# Altium integrated library NSC MiscPower.IntLib: 1417 symbols (part 25 of 39)
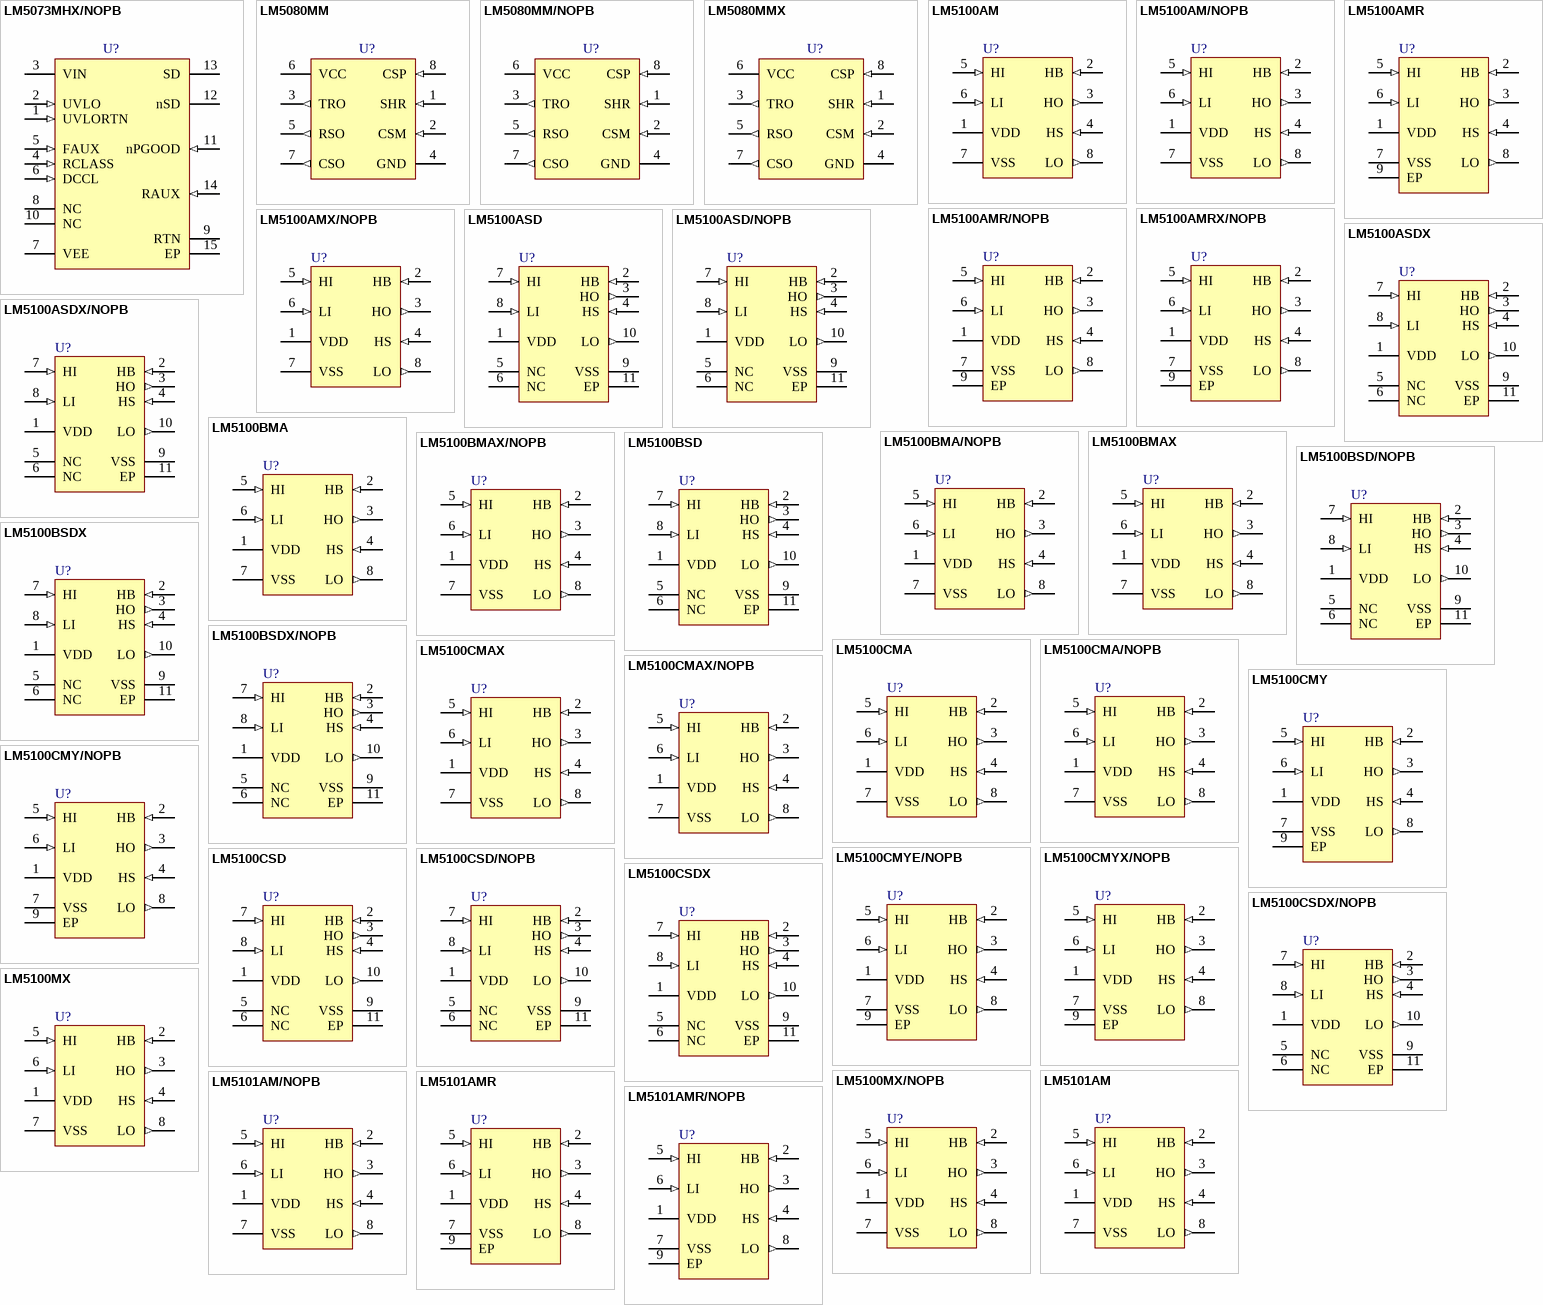
[diagram p75: symbols LM5073MHX/NOPB to LM5101AMR/NOPB]

## LM5100CMY/NOPB
designator U?
1A High Voltage High-Side and Low-Side Gate Driver, 8-pin eMSOP, Pb-Free; PartNumber: LM5100CMY/NOPB; Manufacturer: National Semiconductor; PackageTopMarking: ZXTT*SXCB; PowerWise: N; CompType: MiscPower; Published: 1-Mar-2010; DatasheetVersion: Jun-2009; PackageVersion: revA, Nov-2003; PackageReference: MUY08A; Publisher: Altium Limited; PackageDescription: Molded Mini-SO, Exposed Pad, .118 x .118 x .034in Body, 8 Lead, .0256in Pitch; Supplier 1: Digi-Key; Supplier Part Number 1: LM5100CMYTR-ND; Supplier 2: Digi-Key; Supplier Part Number 2: LM5100CMYCT-ND; Supplier 3: Digi-Key; Supplier Part Number 3: LM5100CMYDKR-ND; RoHS: Y; PinCount: 8; Code_JEDEC: MO-187-AA; ComponentLink1Description: LM5100C Datasheet; ComponentLink1URL: http://www.national.com/ds/LM/LM5100C.pdf; ComponentLink2Description: LM5100C Web Page; ComponentLink2URL: http://www.national.com/pf/LM/LM5100C.html; ComponentLink3Description: MUY08A Package Page; ComponentLink3URL: http://www.national.com/packaging/folders/muy08a.html
footprint MUY08A_N (TSOP, 8-Leads, Body 3x3mm, Pitch 0.65mm, Exposed Pad, IPC Medium Density)
footprint MUY08A_L (TSOP, 8-Leads, Body 3x3mm, Pitch 0.65mm, Exposed Pad, IPC High Density)
footprint MUY08A_M (TSOP, 8-Leads, Body 3x3mm, Pitch 0.65mm, Exposed Pad, IPC Low Density)
pins: 1 VDD (power), 2 HB (in), 3 HO (out), 4 HS (in), 5 HI (in), 6 LI (in), 7 VSS (power), 8 LO (out), 9 EP (power)

## LM5100CMYE/NOPB
designator U?
1A High Voltage High-Side and Low-Side Gate Driver, 8-pin eMSOP, Pb-Free; PartNumber: LM5100CMYE/NOPB; Manufacturer: National Semiconductor; PackageTopMarking: ZXTT*SXCB; PowerWise: N; CompType: MiscPower; Published: 1-Mar-2010; DatasheetVersion: Jun-2009; PackageVersion: revA, Nov-2003; PackageReference: MUY08A; Publisher: Altium Limited; PackageDescription: Molded Mini-SO, Exposed Pad, .118 x .118 x .034in Body, 8 Lead, .0256in Pitch; Supplier 1: Digi-Key; Supplier Part Number 1: LM5100CMYE-ND; RoHS: Y; PinCount: 8; Code_JEDEC: MO-187-AA; ComponentLink1Description: LM5100C Datasheet; ComponentLink1URL: http://www.national.com/ds/LM/LM5100C.pdf; ComponentLink2Description: LM5100C Web Page; ComponentLink2URL: http://www.national.com/pf/LM/LM5100C.html; ComponentLink3Description: MUY08A Package Page; ComponentLink3URL: http://www.national.com/packaging/folders/muy08a.html
footprint MUY08A_N (TSOP, 8-Leads, Body 3x3mm, Pitch 0.65mm, Exposed Pad, IPC Medium Density)
footprint MUY08A_L (TSOP, 8-Leads, Body 3x3mm, Pitch 0.65mm, Exposed Pad, IPC High Density)
footprint MUY08A_M (TSOP, 8-Leads, Body 3x3mm, Pitch 0.65mm, Exposed Pad, IPC Low Density)
pins: 1 VDD (power), 2 HB (in), 3 HO (out), 4 HS (in), 5 HI (in), 6 LI (in), 7 VSS (power), 8 LO (out), 9 EP (power)

## LM5100CMYX/NOPB
designator U?
1A High Voltage High-Side and Low-Side Gate Driver, 8-pin eMSOP, Pb-Free; PartNumber: LM5100CMYX/NOPB; Manufacturer: National Semiconductor; PackageTopMarking: ZXTT*SXCB; PowerWise: N; CompType: MiscPower; Published: 1-Mar-2010; DatasheetVersion: Jun-2009; PackageVersion: revA, Nov-2003; PackageReference: MUY08A; Publisher: Altium Limited; PackageDescription: Molded Mini-SO, Exposed Pad, .118 x .118 x .034in Body, 8 Lead, .0256in Pitch; Supplier 1: Digi-Key; Supplier Part Number 1: LM5100CMYX-ND; RoHS: Y; PinCount: 8; Code_JEDEC: MO-187-AA; ComponentLink1Description: LM5100C Datasheet; ComponentLink1URL: http://www.national.com/ds/LM/LM5100C.pdf; ComponentLink2Description: LM5100C Web Page; ComponentLink2URL: http://www.national.com/pf/LM/LM5100C.html; ComponentLink3Description: MUY08A Package Page; ComponentLink3URL: http://www.national.com/packaging/folders/muy08a.html
footprint MUY08A_N (TSOP, 8-Leads, Body 3x3mm, Pitch 0.65mm, Exposed Pad, IPC Medium Density)
footprint MUY08A_L (TSOP, 8-Leads, Body 3x3mm, Pitch 0.65mm, Exposed Pad, IPC High Density)
footprint MUY08A_M (TSOP, 8-Leads, Body 3x3mm, Pitch 0.65mm, Exposed Pad, IPC Low Density)
pins: 1 VDD (power), 2 HB (in), 3 HO (out), 4 HS (in), 5 HI (in), 6 LI (in), 7 VSS (power), 8 LO (out), 9 EP (power)

## LM5100CSD
designator U?
1A High Voltage High-Side and Low-Side Gate Driver, 10-pin LLP; PartNumber: LM5100CSD; Manufacturer: National Semiconductor; PackageTopMarking: NS*UZXYTT*5100CSD; PowerWise: N; CompType: MiscPower; Published: 4-Dec-2008; DatasheetVersion: Jun-2009; PackageVersion: revA, May-2003; PackageReference: SDC10A; Publisher: Altium Limited; PackageDescription: LLP, Plastic, Dual, 4 x 4 x 0.8mm Body, 10 Lead, 0.8mm Pitch, No Pullback; Supplier 1: Farnell; Supplier Part Number 1: 1313860; RoHS: N; PinCount: 10; ComponentLink1Description: LM5100C Datasheet; ComponentLink1URL: http://www.national.com/ds/LM/LM5100C.pdf; ComponentLink2Description: LM5100C Web Page; ComponentLink2URL: http://www.national.com/pf/LM/LM5100C.html; ComponentLink3Description: SDC10A Package Page; ComponentLink3URL: http://www.national.com/packaging/folders/sdc10a.html
footprint SDC10A (SON, 10-Leads, Body 4x4 mm, Pitch 0.8mm, NSC Recommended)
pins: 1 VDD (power), 2 HB (in), 3 HO (out), 4 HS (in), 5 NC, 6 NC, 7 HI (in), 8 LI (in), 9 VSS (power), 10 LO (out), 11 EP (power)

## LM5100CSD/NOPB
designator U?
1A High Voltage High-Side and Low-Side Gate Driver, 10-pin LLP, Pb-Free; PartNumber: LM5100CSD/NOPB; Manufacturer: National Semiconductor; PackageTopMarking: NS*UZXYTT*5100CSD; PowerWise: N; CompType: MiscPower; Published: 1-Mar-2010; DatasheetVersion: Jun-2009; PackageVersion: revA, May-2003; PackageReference: SDC10A; Publisher: Altium Limited; PackageDescription: LLP, Plastic, Dual, 4 x 4 x 0.8mm Body, 10 Lead, 0.8mm Pitch, No Pullback; Supplier 1: Digi-Key; Supplier Part Number 1: LM5100CSDTR-ND; Supplier 2: Digi-Key; Supplier Part Number 2: LM5100CSDCT-ND; Supplier 3: Digi-Key; Supplier Part Number 3: LM5100CSDDKR-ND; RoHS: Y; PinCount: 10; ComponentLink1Description: LM5100C Datasheet; ComponentLink1URL: http://www.national.com/ds/LM/LM5100C.pdf; ComponentLink2Description: LM5100C Web Page; ComponentLink2URL: http://www.national.com/pf/LM/LM5100C.html; ComponentLink3Description: SDC10A Package Page; ComponentLink3URL: http://www.national.com/packaging/folders/sdc10a.html
footprint SDC10A (SON, 10-Leads, Body 4x4 mm, Pitch 0.8mm, NSC Recommended)
pins: 1 VDD (power), 2 HB (in), 3 HO (out), 4 HS (in), 5 NC, 6 NC, 7 HI (in), 8 LI (in), 9 VSS (power), 10 LO (out), 11 EP (power)

## LM5100CSDX
designator U?
1A High Voltage High-Side and Low-Side Gate Driver, 10-pin LLP; PartNumber: LM5100CSDX; Manufacturer: National Semiconductor; PackageTopMarking: NS*UZXYTT*5100CSD; PowerWise: N; CompType: MiscPower; Published: 1-Mar-2010; DatasheetVersion: Jun-2009; PackageVersion: revA, May-2003; PackageReference: SDC10A; Publisher: Altium Limited; PackageDescription: LLP, Plastic, Dual, 4 x 4 x 0.8mm Body, 10 Lead, 0.8mm Pitch, No Pullback; RoHS: N; PinCount: 10; ComponentLink1Description: LM5100C Datasheet; ComponentLink1URL: http://www.national.com/ds/LM/LM5100C.pdf; ComponentLink2Description: LM5100C Web Page; ComponentLink2URL: http://www.national.com/pf/LM/LM5100C.html; ComponentLink3Description: SDC10A Package Page; ComponentLink3URL: http://www.national.com/packaging/folders/sdc10a.html
footprint SDC10A (SON, 10-Leads, Body 4x4 mm, Pitch 0.8mm, NSC Recommended)
pins: 1 VDD (power), 2 HB (in), 3 HO (out), 4 HS (in), 5 NC, 6 NC, 7 HI (in), 8 LI (in), 9 VSS (power), 10 LO (out), 11 EP (power)

## LM5100CSDX/NOPB
designator U?
1A High Voltage High-Side and Low-Side Gate Driver, 10-pin LLP, Pb-Free; PartNumber: LM5100CSDX/NOPB; Manufacturer: National Semiconductor; PackageTopMarking: NS*UZXYTT*5100CSD; PowerWise: N; CompType: MiscPower; Published: 1-Mar-2010; DatasheetVersion: Jun-2009; PackageVersion: revA, May-2003; PackageReference: SDC10A; Publisher: Altium Limited; PackageDescription: LLP, Plastic, Dual, 4 x 4 x 0.8mm Body, 10 Lead, 0.8mm Pitch, No Pullback; Supplier 1: Digi-Key; Supplier Part Number 1: LM5100CSDX-ND; RoHS: Y; PinCount: 10; ComponentLink1Description: LM5100C Datasheet; ComponentLink1URL: http://www.national.com/ds/LM/LM5100C.pdf; ComponentLink2Description: LM5100C Web Page; ComponentLink2URL: http://www.national.com/pf/LM/LM5100C.html; ComponentLink3Description: SDC10A Package Page; ComponentLink3URL: http://www.national.com/packaging/folders/sdc10a.html
footprint SDC10A (SON, 10-Leads, Body 4x4 mm, Pitch 0.8mm, NSC Recommended)
pins: 1 VDD (power), 2 HB (in), 3 HO (out), 4 HS (in), 5 NC, 6 NC, 7 HI (in), 8 LI (in), 9 VSS (power), 10 LO (out), 11 EP (power)

## LM5100MX
designator U?
High Voltage High Side and Low Side Gate Driver, 8 pin SOIC NARROW; PartNumber: LM5100MX; Manufacturer: National Semiconductor; PackageTopMarking: NSZXTT*5100*M; PowerWise: N; CompType: MiscPower; Published: 16-Nov-2010; DatasheetVersion: Mar-2005; PackageVersion: revM, May-2009; PackageReference: M08A; Publisher: Altium Limited; PackageDescription: SOIC Narrow, 4.9 x 3.9 x 1.45mm, 8 Lead, 1.27mm Pitch; RoHS: N; PinCount: 8; Code_JEDEC: MS-012-AA; Code_IPC: SOIC127P600-8; ComponentLink1Description: LM5100 Datasheet; ComponentLink1URL: http://www.national.com/ds/LM/LM5100.pdf; ComponentLink2Description: LM5100 Web Page; ComponentLink2URL: http://www.national.com/pf/LM/LM5100.html; ComponentLink3Description: M08A Package Page; ComponentLink3URL: http://www.national.com/packaging/folders/m08a.html
footprint M08A_N (SOIC, 8-Leads, Body 4.9x3.9mm, Pitch 1.27mm, IPC Medium Density)
footprint M08A_L (SOIC, 8-Leads, Body 4.9x3.9mm, Pitch 1.27mm, IPC High Density)
footprint M08A_M (SOIC, 8-Leads, Body 4.9x3.9mm, Pitch 1.27mm, IPC Low Density)
pins: 1 VDD (power), 2 HB (in), 3 HO (out), 4 HS (in), 5 HI (in), 6 LI (in), 7 VSS (power), 8 LO (out)

## LM5100MX/NOPB
designator U?
High Voltage High Side and Low Side Gate Driver, 8 pin SOIC NARROW; PartNumber: LM5100MX/NOPB; Manufacturer: National Semiconductor; PackageTopMarking: NSZXTT*5100*M; PowerWise: N; CompType: MiscPower; Published: 16-Nov-2010; DatasheetVersion: Mar-2005; PackageVersion: revM, May-2009; PackageReference: M08A; Publisher: Altium Limited; PackageDescription: SOIC Narrow, 4.9 x 3.9 x 1.45mm, 8 Lead, 1.27mm Pitch; RoHS: Y; PinCount: 8; Code_JEDEC: MS-012-AA; Code_IPC: SOIC127P600-8; ComponentLink1Description: LM5100 Datasheet; ComponentLink1URL: http://www.national.com/ds/LM/LM5100.pdf; ComponentLink2Description: LM5100 Web Page; ComponentLink2URL: http://www.national.com/pf/LM/LM5100.html; ComponentLink3Description: M08A Package Page; ComponentLink3URL: http://www.national.com/packaging/folders/m08a.html
footprint M08A_N (SOIC, 8-Leads, Body 4.9x3.9mm, Pitch 1.27mm, IPC Medium Density)
footprint M08A_L (SOIC, 8-Leads, Body 4.9x3.9mm, Pitch 1.27mm, IPC High Density)
footprint M08A_M (SOIC, 8-Leads, Body 4.9x3.9mm, Pitch 1.27mm, IPC Low Density)
pins: 1 VDD (power), 2 HB (in), 3 HO (out), 4 HS (in), 5 HI (in), 6 LI (in), 7 VSS (power), 8 LO (out)

## LM5101AM
designator U?
3A High Voltage High-Side and Low-Side Gate Driver, 8-pin Narrow SOIC; PartNumber: LM5101AM; Manufacturer: National Semiconductor; PackageTopMarking: NSZXTT*L5101*AM; PowerWise: N; CompType: MiscPower; Published: 4-Dec-2008; DatasheetVersion: Aug-2010; PackageVersion: revM, May-2009; PackageReference: M08A; Publisher: Altium Limited; PackageDescription: SOIC Narrow, 4.9 x 3.9 x 1.45mm, 8 Lead, 1.27mm Pitch; Supplier 1: Farnell; Supplier Part Number 1: 1008266; RoHS: N; PinCount: 8; Code_JEDEC: MS-012-AA; Code_IPC: SOIC127P600-8; ComponentLink1Description: LM5101A Datasheet; ComponentLink1URL: http://www.national.com/ds/LM/LM5101A.pdf; ComponentLink2Description: LM5101A Web Page; ComponentLink2URL: http://www.national.com/pf/LM/LM5101A.html; ComponentLink3Description: M08A Package Page; ComponentLink3URL: http://www.national.com/packaging/folders/m08a.html
footprint M08A_N (SOIC, 8-Leads, Body 4.9x3.9mm, Pitch 1.27mm, IPC Medium Density)
footprint M08A_L (SOIC, 8-Leads, Body 4.9x3.9mm, Pitch 1.27mm, IPC High Density)
footprint M08A_M (SOIC, 8-Leads, Body 4.9x3.9mm, Pitch 1.27mm, IPC Low Density)
pins: 1 VDD (power), 2 HB (in), 3 HO (out), 4 HS (in), 5 HI (in), 6 LI (in), 7 VSS (power), 8 LO (out)

## LM5101AM/NOPB
designator U?
3A High Voltage High-Side and Low-Side Gate Driver, 8-pin Narrow SOIC, Pb-Free; PartNumber: LM5101AM/NOPB; Manufacturer: National Semiconductor; PackageTopMarking: NSZXTT*L5101*AM; PowerWise: N; CompType: MiscPower; Published: 1-Mar-2010; DatasheetVersion: Aug-2010; PackageVersion: revM, May-2009; PackageReference: M08A; Publisher: Altium Limited; PackageDescription: SOIC Narrow, 4.9 x 3.9 x 1.45mm, 8 Lead, 1.27mm Pitch; Supplier 1: Digi-Key; Supplier Part Number 1: LM5101AM-ND; Supplier 2: Farnell; Supplier Part Number 2: 1559514; RoHS: Y; PinCount: 8; Code_JEDEC: MS-012-AA; Code_IPC: SOIC127P600-8; ComponentLink1Description: LM5101A Datasheet; ComponentLink1URL: http://www.national.com/ds/LM/LM5101A.pdf; ComponentLink2Description: LM5101A Web Page; ComponentLink2URL: http://www.national.com/pf/LM/LM5101A.html; ComponentLink3Description: M08A Package Page; ComponentLink3URL: http://www.national.com/packaging/folders/m08a.html
footprint M08A_N (SOIC, 8-Leads, Body 4.9x3.9mm, Pitch 1.27mm, IPC Medium Density)
footprint M08A_L (SOIC, 8-Leads, Body 4.9x3.9mm, Pitch 1.27mm, IPC High Density)
footprint M08A_M (SOIC, 8-Leads, Body 4.9x3.9mm, Pitch 1.27mm, IPC Low Density)
pins: 1 VDD (power), 2 HB (in), 3 HO (out), 4 HS (in), 5 HI (in), 6 LI (in), 7 VSS (power), 8 LO (out)

## LM5101AMR
designator U?
3A High Voltage High-Side and Low-Side Gate Driver, 8-pin PSOP; PartNumber: LM5101AMR; Manufacturer: National Semiconductor; PackageTopMarking: NSXYTT*L5101*AMR; PowerWise: N; CompType: MiscPower; Published: 29-May-2009; DatasheetVersion: Jun-2009; PackageVersion: revD, Dec-2007; PackageReference: MRA08A; Publisher: Altium Limited; PackageDescription: Molded, PSOP .193 x .154 x .058in, 8 Lead, .050in Pitch; RoHS: Y; PinCount: 8; Code_JEDEC: MS-012-AA; ComponentLink1Description: LM5101A Datasheet; ComponentLink1URL: http://www.national.com/ds/LM/LM5100A.pdf; ComponentLink2Description: LM5101A Web Page; ComponentLink2URL: http://www.national.com/pf/LM/LM5101A.html; ComponentLink3Description: MRA08A Package Page; ComponentLink3URL: http://www.national.com/packaging/folders/mra08a.html
footprint MRA08A_N (SOIC, 8-Leads, Body 4.9x3.9mm, Pitch 1.27mm, Exposed Pad, IPC Medium Density)
footprint MRA08A_L (SOIC, 8-Leads, Body 4.9x3.9mm, Pitch 1.27mm, Exposed Pad, IPC High Density)
footprint MRA08A_M (SOIC, 8-Leads, Body 4.9x3.9mm, Pitch 1.27mm, Exposed Pad, IPC Low Density)
pins: 1 VDD (power), 2 HB (in), 3 HO (out), 4 HS (in), 5 HI (in), 6 LI (in), 7 VSS (power), 8 LO (out), 9 EP (power)

## LM5101AMR/NOPB
designator U?
3A High Voltage High-Side and Low-Side Gate Driver, 8-pin PSOP, Pb-Free; PartNumber: LM5101AMR/NOPB; Manufacturer: National Semiconductor; PackageTopMarking: NSXYTT*L5101*AMR; PowerWise: N; CompType: MiscPower; Published: 1-Mar-2010; DatasheetVersion: Aug-2010; PackageVersion: revD, Dec-2007; PackageReference: MRA08A; Publisher: Altium Limited; PackageDescription: Molded, PSOP .193 x .154 x .058in, 8 Lead, .050in Pitch; Supplier 1: Digi-Key; Supplier Part Number 1: LM5101AMR-ND; RoHS: Y; PinCount: 8; Code_JEDEC: MS-012-AA; ComponentLink1Description: LM5101A Datasheet; ComponentLink1URL: http://www.national.com/ds/LM/LM5101A.pdf; ComponentLink2Description: LM5101A Web Page; ComponentLink2URL: http://www.national.com/pf/LM/LM5101A.html; ComponentLink3Description: MRA08A Package Page; ComponentLink3URL: http://www.national.com/packaging/folders/mra08a.html
footprint MRA08A_N (SOIC, 8-Leads, Body 4.9x3.9mm, Pitch 1.27mm, Exposed Pad, IPC Medium Density)
footprint MRA08A_L (SOIC, 8-Leads, Body 4.9x3.9mm, Pitch 1.27mm, Exposed Pad, IPC High Density)
footprint MRA08A_M (SOIC, 8-Leads, Body 4.9x3.9mm, Pitch 1.27mm, Exposed Pad, IPC Low Density)
pins: 1 VDD (power), 2 HB (in), 3 HO (out), 4 HS (in), 5 HI (in), 6 LI (in), 7 VSS (power), 8 LO (out), 9 EP (power)

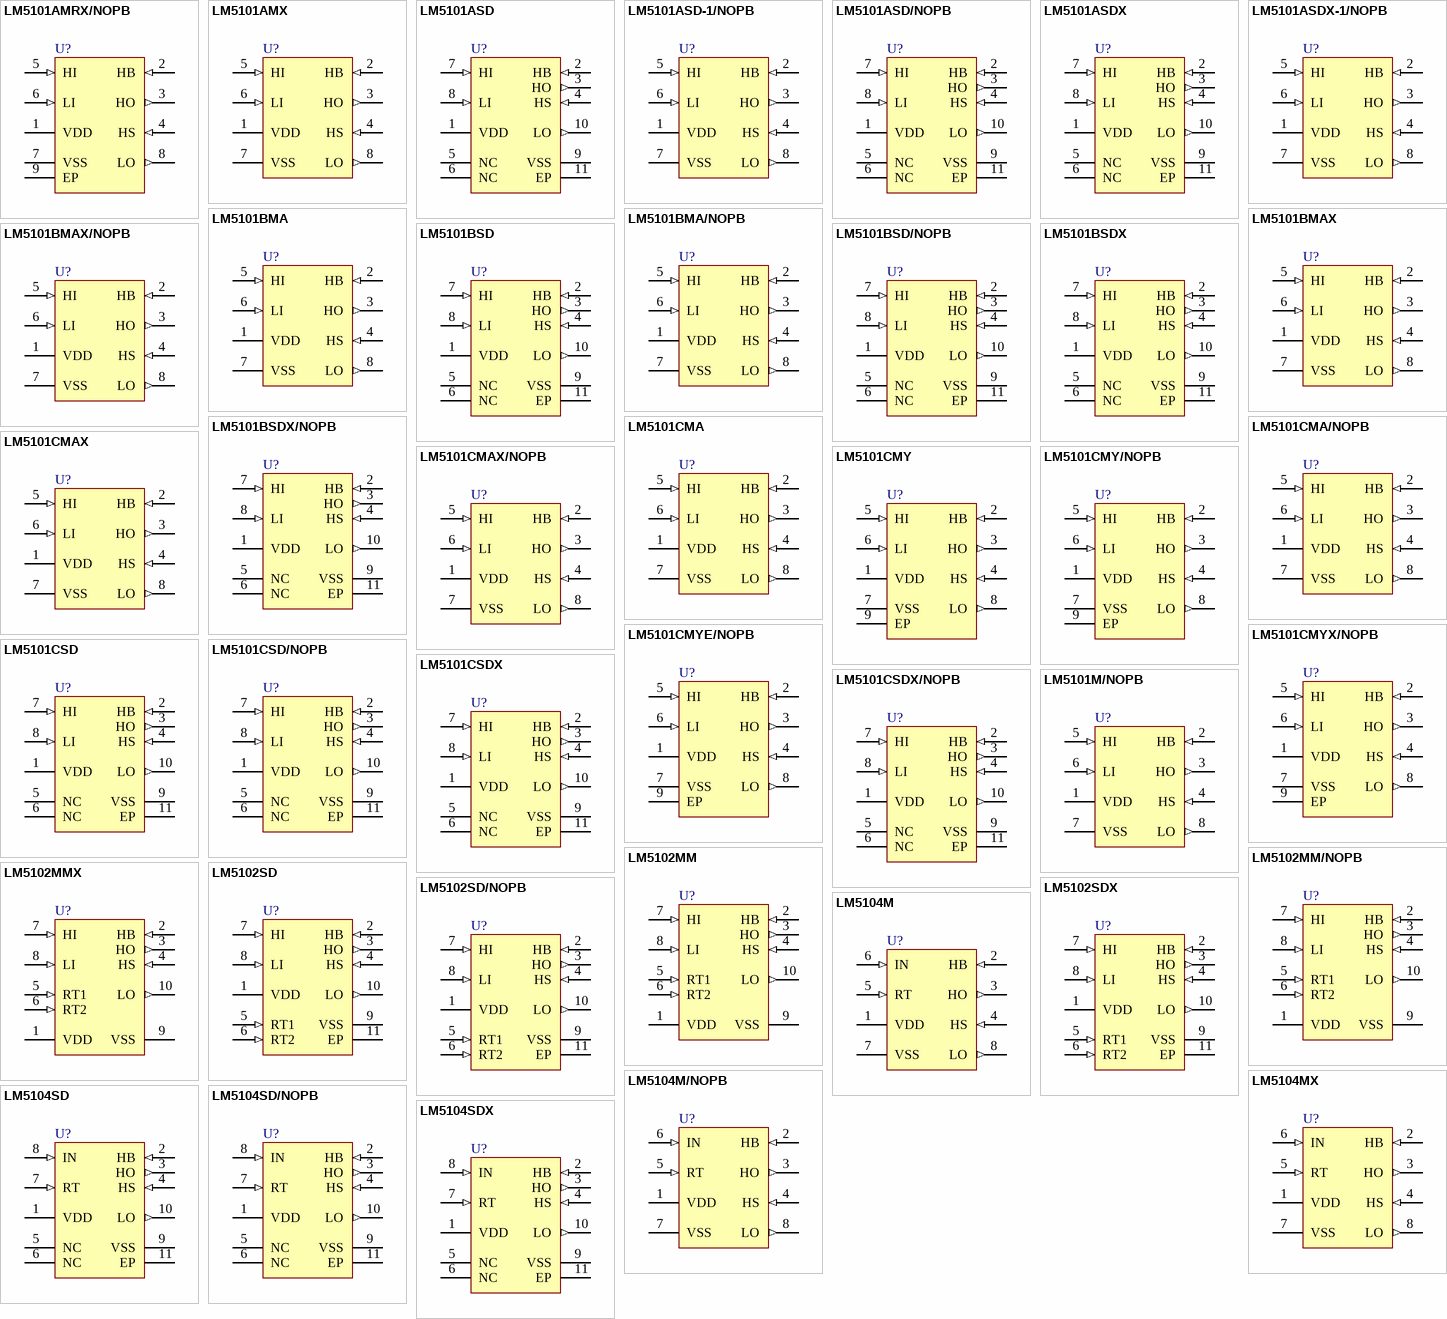
[diagram p27: symbols LM5101AMRX/NOPB to LM5104SDX]

## LM5101AMRX/NOPB
designator U?
3A High Voltage High-Side and Low-Side Gate Driver, 8-pin PSOP, Pb-Free; PartNumber: LM5101AMRX/NOPB; Manufacturer: National Semiconductor; PackageTopMarking: NSXYTT*L5101*AMR; PowerWise: N; CompType: MiscPower; Published: 1-Mar-2010; DatasheetVersion: Aug-2010; PackageVersion: revD, Dec-2007; PackageReference: MRA08A; Publisher: Altium Limited; PackageDescription: Molded, PSOP .193 x .154 x .058in, 8 Lead, .050in Pitch; Supplier 1: Digi-Key; Supplier Part Number 1: LM5101AMRX-ND; RoHS: Y; PinCount: 8; Code_JEDEC: MS-012-AA; ComponentLink1Description: LM5101A Datasheet; ComponentLink1URL: http://www.national.com/ds/LM/LM5101A.pdf; ComponentLink2Description: LM5101A Web Page; ComponentLink2URL: http://www.national.com/pf/LM/LM5101A.html; ComponentLink3Description: MRA08A Package Page; ComponentLink3URL: http://www.national.com/packaging/folders/mra08a.html
footprint MRA08A_N (SOIC, 8-Leads, Body 4.9x3.9mm, Pitch 1.27mm, Exposed Pad, IPC Medium Density)
footprint MRA08A_L (SOIC, 8-Leads, Body 4.9x3.9mm, Pitch 1.27mm, Exposed Pad, IPC High Density)
footprint MRA08A_M (SOIC, 8-Leads, Body 4.9x3.9mm, Pitch 1.27mm, Exposed Pad, IPC Low Density)
pins: 1 VDD (power), 2 HB (in), 3 HO (out), 4 HS (in), 5 HI (in), 6 LI (in), 7 VSS (power), 8 LO (out), 9 EP (power)

## LM5101AMX
designator U?
3A High Voltage High-Side and Low-Side Gate Driver, 8-pin Narrow SOIC; PartNumber: LM5101AMX; Manufacturer: National Semiconductor; PackageTopMarking: NSZXTT*L5101*AM; PowerWise: N; CompType: MiscPower; Published: 1-Mar-2010; DatasheetVersion: Aug-2010; PackageVersion: revM, May-2009; PackageReference: M08A; Publisher: Altium Limited; PackageDescription: SOIC Narrow, 4.9 x 3.9 x 1.45mm, 8 Lead, 1.27mm Pitch; RoHS: N; PinCount: 8; Code_JEDEC: MS-012-AA; Code_IPC: SOIC127P600-8; ComponentLink1Description: LM5101A Datasheet; ComponentLink1URL: http://www.national.com/ds/LM/LM5101A.pdf; ComponentLink2Description: LM5101A Web Page; ComponentLink2URL: http://www.national.com/pf/LM/LM5101A.html; ComponentLink3Description: M08A Package Page; ComponentLink3URL: http://www.national.com/packaging/folders/m08a.html
footprint M08A_N (SOIC, 8-Leads, Body 4.9x3.9mm, Pitch 1.27mm, IPC Medium Density)
footprint M08A_L (SOIC, 8-Leads, Body 4.9x3.9mm, Pitch 1.27mm, IPC High Density)
footprint M08A_M (SOIC, 8-Leads, Body 4.9x3.9mm, Pitch 1.27mm, IPC Low Density)
pins: 1 VDD (power), 2 HB (in), 3 HO (out), 4 HS (in), 5 HI (in), 6 LI (in), 7 VSS (power), 8 LO (out)

## LM5101ASD
designator U?
3A High Voltage High-Side and Low-Side Gate Driver, 10-pin LLP; PartNumber: LM5101ASD; Manufacturer: National Semiconductor; PackageTopMarking: NS*UZXYTT*5101ASD; PowerWise: N; CompType: MiscPower; Published: 4-Dec-2008; DatasheetVersion: Aug-2010; PackageVersion: revA, May-2003; PackageReference: SDC10A; Publisher: Altium Limited; PackageDescription: LLP, Plastic, Dual, 4 x 4 x 0.8mm Body, 10 Lead, 0.8mm Pitch, No Pullback; Supplier 1: Farnell; Supplier Part Number 1: 1008267; RoHS: N; PinCount: 10; ComponentLink1Description: LM5101A Datasheet; ComponentLink1URL: http://www.national.com/ds/LM/LM5101A.pdf; ComponentLink2Description: LM5101A Web Page; ComponentLink2URL: http://www.national.com/pf/LM/LM5101A.html; ComponentLink3Description: SDC10A Package Page; ComponentLink3URL: http://www.national.com/packaging/folders/sdc10a.html
footprint SDC10A (SON, 10-Leads, Body 4x4 mm, Pitch 0.8mm, NSC Recommended)
pins: 1 VDD (power), 2 HB (in), 3 HO (out), 4 HS (in), 5 NC, 6 NC, 7 HI (in), 8 LI (in), 9 VSS (power), 10 LO (out), 11 EP (power)

## LM5101ASD-1/NOPB
designator U?
3A High Voltage High-Side and Low-Side Gate Driver, 8 pin LLP; PartNumber: LM5101ASD-1/NOPB; Manufacturer: National Semiconductor; PackageTopMarking: NS*UZXYTT*5101A-1; PowerWise: N; CompType: MiscPower; Published: 16-Nov-2010; DatasheetVersion: Aug-2010; PackageVersion: revA, Jun-2003; PackageReference: SDC08A; Publisher: Altium Limited; PackageDescription: LLP, Plastic, Dual, 4 x 4 x 0.8mm Body, 8 Lead, 0.8mm Pitch, No Pullback; RoHS: Y; PinCount: 8; ComponentLink1Description: LM5101A Datasheet; ComponentLink1URL: http://www.national.com/ds/LM/LM5101A.pdf; ComponentLink2Description: LM5101A Web Page; ComponentLink2URL: http://www.national.com/pf/LM/LM5101A.html; ComponentLink3Description: SDC08A Package Page; ComponentLink3URL: http://www.national.com/packaging/folders/sdc08a.html
footprint SDC08A (SON, 8-Leads, Body 4x4mm, Pitch 0.8mm, NSC Recommended)
pins: 1 VDD (power), 2 HB (in), 3 HO (out), 4 HS (in), 5 HI (in), 6 LI (in), 7 VSS (power), 8 LO (out)

## LM5101ASD/NOPB
designator U?
3A High Voltage High-Side and Low-Side Gate Driver, 10-pin LLP, Pb-Free; PartNumber: LM5101ASD/NOPB; Manufacturer: National Semiconductor; PackageTopMarking: NS*UZXYTT*5101ASD; PowerWise: N; CompType: MiscPower; Published: 1-Mar-2010; DatasheetVersion: Aug-2010; PackageVersion: revA, May-2003; PackageReference: SDC10A; Publisher: Altium Limited; PackageDescription: LLP, Plastic, Dual, 4 x 4 x 0.8mm Body, 10 Lead, 0.8mm Pitch, No Pullback; Supplier 1: Digi-Key; Supplier Part Number 1: LM5101ASDTR-ND; Supplier 2: Digi-Key; Supplier Part Number 2: LM5101ASDCT-ND; Supplier 3: Digi-Key; Supplier Part Number 3: LM5101ASDDKR-ND; Supplier 4: Farnell; Supplier Part Number 4: 1496184; RoHS: Y; PinCount: 10; ComponentLink1Description: LM5101A Datasheet; ComponentLink1URL: http://www.national.com/ds/LM/LM5101A.pdf; ComponentLink2Description: LM5101A Web Page; ComponentLink2URL: http://www.national.com/pf/LM/LM5101A.html; ComponentLink3Description: SDC10A Package Page; ComponentLink3URL: http://www.national.com/packaging/folders/sdc10a.html
footprint SDC10A (SON, 10-Leads, Body 4x4 mm, Pitch 0.8mm, NSC Recommended)
pins: 1 VDD (power), 2 HB (in), 3 HO (out), 4 HS (in), 5 NC, 6 NC, 7 HI (in), 8 LI (in), 9 VSS (power), 10 LO (out), 11 EP (power)

## LM5101ASDX
designator U?
3A High Voltage High-Side and Low-Side Gate Driver, 10-pin LLP; PartNumber: LM5101ASDX; Manufacturer: National Semiconductor; PackageTopMarking: NS*UZXYTT*5101ASD; PowerWise: N; CompType: MiscPower; Published: 1-Mar-2010; DatasheetVersion: Aug-2010; PackageVersion: revA, May-2003; PackageReference: SDC10A; Publisher: Altium Limited; PackageDescription: LLP, Plastic, Dual, 4 x 4 x 0.8mm Body, 10 Lead, 0.8mm Pitch, No Pullback; RoHS: N; PinCount: 10; ComponentLink1Description: LM5101A Datasheet; ComponentLink1URL: http://www.national.com/ds/LM/LM5101A.pdf; ComponentLink2Description: LM5101A Web Page; ComponentLink2URL: http://www.national.com/pf/LM/LM5101A.html; ComponentLink3Description: SDC10A Package Page; ComponentLink3URL: http://www.national.com/packaging/folders/sdc10a.html
footprint SDC10A (SON, 10-Leads, Body 4x4 mm, Pitch 0.8mm, NSC Recommended)
pins: 1 VDD (power), 2 HB (in), 3 HO (out), 4 HS (in), 5 NC, 6 NC, 7 HI (in), 8 LI (in), 9 VSS (power), 10 LO (out), 11 EP (power)

## LM5101ASDX-1/NOPB
designator U?
3A High Voltage High-Side and Low-Side Gate Driver, 8 pin LLP; PartNumber: LM5101ASDX-1/NOPB; Manufacturer: National Semiconductor; PackageTopMarking: NS*UZXYTT*5101A-1; PowerWise: N; CompType: MiscPower; Published: 16-Nov-2010; DatasheetVersion: Aug-2010; PackageVersion: revA, Jun-2003; PackageReference: SDC08A; Publisher: Altium Limited; PackageDescription: LLP, Plastic, Dual, 4 x 4 x 0.8mm Body, 8 Lead, 0.8mm Pitch, No Pullback; RoHS: Y; PinCount: 8; ComponentLink1Description: LM5101A Datasheet; ComponentLink1URL: http://www.national.com/ds/LM/LM5101A.pdf; ComponentLink2Description: LM5101A Web Page; ComponentLink2URL: http://www.national.com/pf/LM/LM5101A.html; ComponentLink3Description: SDC08A Package Page; ComponentLink3URL: http://www.national.com/packaging/folders/sdc08a.html
footprint SDC08A (SON, 8-Leads, Body 4x4mm, Pitch 0.8mm, NSC Recommended)
pins: 1 VDD (power), 2 HB (in), 3 HO (out), 4 HS (in), 5 HI (in), 6 LI (in), 7 VSS (power), 8 LO (out)

## LM5101BMA
designator U?
2A High Voltage High-Side and Low-Side Gate Driver, 8-pin Narrow SOIC; PartNumber: LM5101BMA; Manufacturer: National Semiconductor; PackageTopMarking: NSZXTT*L5101*BMA; PowerWise: N; CompType: MiscPower; Published: 4-Dec-2008; DatasheetVersion: Jun-2009; PackageVersion: revM, May-2009; PackageReference: M08A; Publisher: Altium Limited; PackageDescription: SOIC Narrow, 4.9 x 3.9 x 1.45mm, 8 Lead, 1.27mm Pitch; Supplier 1: Farnell; Supplier Part Number 1: 1290945; RoHS: N; PinCount: 8; Code_JEDEC: MS-012-AA; Code_IPC: SOIC127P600-8; ComponentLink1Description: LM5101B Datasheet; ComponentLink1URL: http://www.national.com/ds/LM/LM5101B.pdf; ComponentLink2Description: LM5101B Web Page; ComponentLink2URL: http://www.national.com/pf/LM/LM5101B.html; ComponentLink3Description: M08A Package Page; ComponentLink3URL: http://www.national.com/packaging/folders/m08a.html
footprint M08A_N (SOIC, 8-Leads, Body 4.9x3.9mm, Pitch 1.27mm, IPC Medium Density)
footprint M08A_L (SOIC, 8-Leads, Body 4.9x3.9mm, Pitch 1.27mm, IPC High Density)
footprint M08A_M (SOIC, 8-Leads, Body 4.9x3.9mm, Pitch 1.27mm, IPC Low Density)
pins: 1 VDD (power), 2 HB (in), 3 HO (out), 4 HS (in), 5 HI (in), 6 LI (in), 7 VSS (power), 8 LO (out)

## LM5101BMA/NOPB
designator U?
2A High Voltage High-Side and Low-Side Gate Driver, 8-pin Narrow SOIC, Pb-Free; PartNumber: LM5101BMA/NOPB; Manufacturer: National Semiconductor; PackageTopMarking: NSZXTT*L5101*BMA; PowerWise: N; CompType: MiscPower; Published: 1-Mar-2010; DatasheetVersion: Jun-2009; PackageVersion: revM, May-2009; PackageReference: M08A; Publisher: Altium Limited; PackageDescription: SOIC Narrow, 4.9 x 3.9 x 1.45mm, 8 Lead, 1.27mm Pitch; Supplier 1: Digi-Key; Supplier Part Number 1: LM5101BMA-ND; RoHS: Y; PinCount: 8; Code_JEDEC: MS-012-AA; Code_IPC: SOIC127P600-8; ComponentLink1Description: LM5101B Datasheet; ComponentLink1URL: http://www.national.com/ds/LM/LM5101B.pdf; ComponentLink2Description: LM5101B Web Page; ComponentLink2URL: http://www.national.com/pf/LM/LM5101B.html; ComponentLink3Description: M08A Package Page; ComponentLink3URL: http://www.national.com/packaging/folders/m08a.html
footprint M08A_N (SOIC, 8-Leads, Body 4.9x3.9mm, Pitch 1.27mm, IPC Medium Density)
footprint M08A_L (SOIC, 8-Leads, Body 4.9x3.9mm, Pitch 1.27mm, IPC High Density)
footprint M08A_M (SOIC, 8-Leads, Body 4.9x3.9mm, Pitch 1.27mm, IPC Low Density)
pins: 1 VDD (power), 2 HB (in), 3 HO (out), 4 HS (in), 5 HI (in), 6 LI (in), 7 VSS (power), 8 LO (out)

## LM5101BMAX
designator U?
2A High Voltage High-Side and Low-Side Gate Driver, 8-pin Narrow SOIC; PartNumber: LM5101BMAX; Manufacturer: National Semiconductor; PackageTopMarking: NSZXTT*L5101*BMA; PowerWise: N; CompType: MiscPower; Published: 1-Mar-2010; DatasheetVersion: Jun-2009; PackageVersion: revM, May-2009; PackageReference: M08A; Publisher: Altium Limited; PackageDescription: SOIC Narrow, 4.9 x 3.9 x 1.45mm, 8 Lead, 1.27mm Pitch; RoHS: N; PinCount: 8; Code_JEDEC: MS-012-AA; Code_IPC: SOIC127P600-8; ComponentLink1Description: LM5101B Datasheet; ComponentLink1URL: http://www.national.com/ds/LM/LM5101B.pdf; ComponentLink2Description: LM5101B Web Page; ComponentLink2URL: http://www.national.com/pf/LM/LM5101B.html; ComponentLink3Description: M08A Package Page; ComponentLink3URL: http://www.national.com/packaging/folders/m08a.html
footprint M08A_N (SOIC, 8-Leads, Body 4.9x3.9mm, Pitch 1.27mm, IPC Medium Density)
footprint M08A_L (SOIC, 8-Leads, Body 4.9x3.9mm, Pitch 1.27mm, IPC High Density)
footprint M08A_M (SOIC, 8-Leads, Body 4.9x3.9mm, Pitch 1.27mm, IPC Low Density)
pins: 1 VDD (power), 2 HB (in), 3 HO (out), 4 HS (in), 5 HI (in), 6 LI (in), 7 VSS (power), 8 LO (out)

## LM5101BMAX/NOPB
designator U?
2A High Voltage High-Side and Low-Side Gate Driver, 8-pin Narrow SOIC, Pb-Free; PartNumber: LM5101BMAX/NOPB; Manufacturer: National Semiconductor; PackageTopMarking: NSZXTT*L5101*BMA; PowerWise: N; CompType: MiscPower; Published: 1-Mar-2010; DatasheetVersion: Jun-2009; PackageVersion: revM, May-2009; PackageReference: M08A; Publisher: Altium Limited; PackageDescription: SOIC Narrow, 4.9 x 3.9 x 1.45mm, 8 Lead, 1.27mm Pitch; Supplier 1: Digi-Key; Supplier Part Number 1: LM5101BMAX-ND; RoHS: Y; PinCount: 8; Code_JEDEC: MS-012-AA; Code_IPC: SOIC127P600-8; ComponentLink1Description: LM5101B Datasheet; ComponentLink1URL: http://www.national.com/ds/LM/LM5101B.pdf; ComponentLink2Description: LM5101B Web Page; ComponentLink2URL: http://www.national.com/pf/LM/LM5101B.html; ComponentLink3Description: M08A Package Page; ComponentLink3URL: http://www.national.com/packaging/folders/m08a.html
footprint M08A_N (SOIC, 8-Leads, Body 4.9x3.9mm, Pitch 1.27mm, IPC Medium Density)
footprint M08A_L (SOIC, 8-Leads, Body 4.9x3.9mm, Pitch 1.27mm, IPC High Density)
footprint M08A_M (SOIC, 8-Leads, Body 4.9x3.9mm, Pitch 1.27mm, IPC Low Density)
pins: 1 VDD (power), 2 HB (in), 3 HO (out), 4 HS (in), 5 HI (in), 6 LI (in), 7 VSS (power), 8 LO (out)

## LM5101BSD
designator U?
2A High Voltage High-Side and Low-Side Gate Driver, 10-pin LLP; PartNumber: LM5101BSD; Manufacturer: National Semiconductor; PackageTopMarking: NS*UZXYTT*5101BSD; PowerWise: N; CompType: MiscPower; Published: 4-Dec-2008; DatasheetVersion: Jun-2009; PackageVersion: revA, May-2003; PackageReference: SDC10A; Publisher: Altium Limited; PackageDescription: LLP, Plastic, Dual, 4 x 4 x 0.8mm Body, 10 Lead, 0.8mm Pitch, No Pullback; Supplier 1: Farnell; Supplier Part Number 1: 1313862; RoHS: N; PinCount: 10; ComponentLink1Description: LM5101B Datasheet; ComponentLink1URL: http://www.national.com/ds/LM/LM5101B.pdf; ComponentLink2Description: LM5101B Web Page; ComponentLink2URL: http://www.national.com/pf/LM/LM5101B.html; ComponentLink3Description: SDC10A Package Page; ComponentLink3URL: http://www.national.com/packaging/folders/sdc10a.html
footprint SDC10A (SON, 10-Leads, Body 4x4 mm, Pitch 0.8mm, NSC Recommended)
pins: 1 VDD (power), 2 HB (in), 3 HO (out), 4 HS (in), 5 NC, 6 NC, 7 HI (in), 8 LI (in), 9 VSS (power), 10 LO (out), 11 EP (power)

## LM5101BSD/NOPB
designator U?
2A High Voltage High-Side and Low-Side Gate Driver, 10-pin LLP, Pb-Free; PartNumber: LM5101BSD/NOPB; Manufacturer: National Semiconductor; PackageTopMarking: NS*UZXYTT*5101BSD; PowerWise: N; CompType: MiscPower; Published: 1-Mar-2010; DatasheetVersion: Jun-2009; PackageVersion: revA, May-2003; PackageReference: SDC10A; Publisher: Altium Limited; PackageDescription: LLP, Plastic, Dual, 4 x 4 x 0.8mm Body, 10 Lead, 0.8mm Pitch, No Pullback; Supplier 1: Digi-Key; Supplier Part Number 1: LM5101BSDTR-ND; Supplier 2: Digi-Key; Supplier Part Number 2: LM5101BSDCT-ND; Supplier 3: Digi-Key; Supplier Part Number 3: LM5101BSDDKR-ND; RoHS: Y; PinCount: 10; ComponentLink1Description: LM5101B Datasheet; ComponentLink1URL: http://www.national.com/ds/LM/LM5101B.pdf; ComponentLink2Description: LM5101B Web Page; ComponentLink2URL: http://www.national.com/pf/LM/LM5101B.html; ComponentLink3Description: SDC10A Package Page; ComponentLink3URL: http://www.national.com/packaging/folders/sdc10a.html
footprint SDC10A (SON, 10-Leads, Body 4x4 mm, Pitch 0.8mm, NSC Recommended)
pins: 1 VDD (power), 2 HB (in), 3 HO (out), 4 HS (in), 5 NC, 6 NC, 7 HI (in), 8 LI (in), 9 VSS (power), 10 LO (out), 11 EP (power)

## LM5101BSDX
designator U?
2A High Voltage High-Side and Low-Side Gate Driver, 10-pin LLP; PartNumber: LM5101BSDX; Manufacturer: National Semiconductor; PackageTopMarking: NS*UZXYTT*5101BSD; PowerWise: N; CompType: MiscPower; Published: 1-Mar-2010; DatasheetVersion: Jun-2009; PackageVersion: revA, May-2003; PackageReference: SDC10A; Publisher: Altium Limited; PackageDescription: LLP, Plastic, Dual, 4 x 4 x 0.8mm Body, 10 Lead, 0.8mm Pitch, No Pullback; RoHS: N; PinCount: 10; ComponentLink1Description: LM5101B Datasheet; ComponentLink1URL: http://www.national.com/ds/LM/LM5101B.pdf; ComponentLink2Description: LM5101B Web Page; ComponentLink2URL: http://www.national.com/pf/LM/LM5101B.html; ComponentLink3Description: SDC10A Package Page; ComponentLink3URL: http://www.national.com/packaging/folders/sdc10a.html
footprint SDC10A (SON, 10-Leads, Body 4x4 mm, Pitch 0.8mm, NSC Recommended)
pins: 1 VDD (power), 2 HB (in), 3 HO (out), 4 HS (in), 5 NC, 6 NC, 7 HI (in), 8 LI (in), 9 VSS (power), 10 LO (out), 11 EP (power)

## LM5101BSDX/NOPB
designator U?
2A High Voltage High-Side and Low-Side Gate Driver, 10-pin LLP, Pb-Free; PartNumber: LM5101BSDX/NOPB; Manufacturer: National Semiconductor; PackageTopMarking: NS*UZXYTT*5101BSD; PowerWise: N; CompType: MiscPower; Published: 1-Mar-2010; DatasheetVersion: Jun-2009; PackageVersion: revA, May-2003; PackageReference: SDC10A; Publisher: Altium Limited; PackageDescription: LLP, Plastic, Dual, 4 x 4 x 0.8mm Body, 10 Lead, 0.8mm Pitch, No Pullback; Supplier 1: Digi-Key; Supplier Part Number 1: LM5101BSDX-ND; RoHS: Y; PinCount: 10; ComponentLink1Description: LM5101B Datasheet; ComponentLink1URL: http://www.national.com/ds/LM/LM5101B.pdf; ComponentLink2Description: LM5101B Web Page; ComponentLink2URL: http://www.national.com/pf/LM/LM5101B.html; ComponentLink3Description: SDC10A Package Page; ComponentLink3URL: http://www.national.com/packaging/folders/sdc10a.html
footprint SDC10A (SON, 10-Leads, Body 4x4 mm, Pitch 0.8mm, NSC Recommended)
pins: 1 VDD (power), 2 HB (in), 3 HO (out), 4 HS (in), 5 NC, 6 NC, 7 HI (in), 8 LI (in), 9 VSS (power), 10 LO (out), 11 EP (power)

## LM5101CMA
designator U?
1A High Voltage High-Side and Low-Side Gate Driver, 8-pin Narrow SOIC; PartNumber: LM5101CMA; Manufacturer: National Semiconductor; PackageTopMarking: NSZXTT*L5101*CMA; PowerWise: N; CompType: MiscPower; Published: 4-Dec-2008; DatasheetVersion: Jun-2009; PackageVersion: revM, May-2009; PackageReference: M08A; Publisher: Altium Limited; PackageDescription: SOIC Narrow, 4.9 x 3.9 x 1.45mm, 8 Lead, 1.27mm Pitch; Supplier 1: Farnell; Supplier Part Number 1: 1290946; RoHS: N; PinCount: 8; Code_JEDEC: MS-012-AA; Code_IPC: SOIC127P600-8; ComponentLink1Description: LM5101C Datasheet; ComponentLink1URL: http://www.national.com/ds/LM/LM5101C.pdf; ComponentLink2Description: LM5101C Web Page; ComponentLink2URL: http://www.national.com/pf/LM/LM5101C.html; ComponentLink3Description: M08A Package Page; ComponentLink3URL: http://www.national.com/packaging/folders/m08a.html
footprint M08A_N (SOIC, 8-Leads, Body 4.9x3.9mm, Pitch 1.27mm, IPC Medium Density)
footprint M08A_L (SOIC, 8-Leads, Body 4.9x3.9mm, Pitch 1.27mm, IPC High Density)
footprint M08A_M (SOIC, 8-Leads, Body 4.9x3.9mm, Pitch 1.27mm, IPC Low Density)
pins: 1 VDD (power), 2 HB (in), 3 HO (out), 4 HS (in), 5 HI (in), 6 LI (in), 7 VSS (power), 8 LO (out)

## LM5101CMA/NOPB
designator U?
1A High Voltage High-Side and Low-Side Gate Driver, 8-pin Narrow SOIC, Pb-Free; PartNumber: LM5101CMA/NOPB; Manufacturer: National Semiconductor; PackageTopMarking: NSZXTT*L5101*CMA; PowerWise: N; CompType: MiscPower; Published: 1-Mar-2010; DatasheetVersion: Jun-2009; PackageVersion: revM, May-2009; PackageReference: M08A; Publisher: Altium Limited; PackageDescription: SOIC Narrow, 4.9 x 3.9 x 1.45mm, 8 Lead, 1.27mm Pitch; Supplier 1: Digi-Key; Supplier Part Number 1: LM5101CMA-ND; RoHS: Y; PinCount: 8; Code_JEDEC: MS-012-AA; Code_IPC: SOIC127P600-8; ComponentLink1Description: LM5101C Datasheet; ComponentLink1URL: http://www.national.com/ds/LM/LM5101C.pdf; ComponentLink2Description: LM5101C Web Page; ComponentLink2URL: http://www.national.com/pf/LM/LM5101C.html; ComponentLink3Description: M08A Package Page; ComponentLink3URL: http://www.national.com/packaging/folders/m08a.html
footprint M08A_N (SOIC, 8-Leads, Body 4.9x3.9mm, Pitch 1.27mm, IPC Medium Density)
footprint M08A_L (SOIC, 8-Leads, Body 4.9x3.9mm, Pitch 1.27mm, IPC High Density)
footprint M08A_M (SOIC, 8-Leads, Body 4.9x3.9mm, Pitch 1.27mm, IPC Low Density)
pins: 1 VDD (power), 2 HB (in), 3 HO (out), 4 HS (in), 5 HI (in), 6 LI (in), 7 VSS (power), 8 LO (out)

## LM5101CMAX
designator U?
1A High Voltage High-Side and Low-Side Gate Driver, 8-pin Narrow SOIC; PartNumber: LM5101CMAX; Manufacturer: National Semiconductor; PackageTopMarking: NSZXTT*L5101*CMA; PowerWise: N; CompType: MiscPower; Published: 1-Mar-2010; DatasheetVersion: Jun-2009; PackageVersion: revM, May-2009; PackageReference: M08A; Publisher: Altium Limited; PackageDescription: SOIC Narrow, 4.9 x 3.9 x 1.45mm, 8 Lead, 1.27mm Pitch; RoHS: N; PinCount: 8; Code_JEDEC: MS-012-AA; Code_IPC: SOIC127P600-8; ComponentLink1Description: LM5101C Datasheet; ComponentLink1URL: http://www.national.com/ds/LM/LM5101C.pdf; ComponentLink2Description: LM5101C Web Page; ComponentLink2URL: http://www.national.com/pf/LM/LM5101C.html; ComponentLink3Description: M08A Package Page; ComponentLink3URL: http://www.national.com/packaging/folders/m08a.html
footprint M08A_N (SOIC, 8-Leads, Body 4.9x3.9mm, Pitch 1.27mm, IPC Medium Density)
footprint M08A_L (SOIC, 8-Leads, Body 4.9x3.9mm, Pitch 1.27mm, IPC High Density)
footprint M08A_M (SOIC, 8-Leads, Body 4.9x3.9mm, Pitch 1.27mm, IPC Low Density)
pins: 1 VDD (power), 2 HB (in), 3 HO (out), 4 HS (in), 5 HI (in), 6 LI (in), 7 VSS (power), 8 LO (out)

## LM5101CMAX/NOPB
designator U?
1A High Voltage High-Side and Low-Side Gate Driver, 8-pin Narrow SOIC, Pb-Free; PartNumber: LM5101CMAX/NOPB; Manufacturer: National Semiconductor; PackageTopMarking: NSZXTT*L5101*CMA; PowerWise: N; CompType: MiscPower; Published: 1-Mar-2010; DatasheetVersion: Jun-2009; PackageVersion: revM, May-2009; PackageReference: M08A; Publisher: Altium Limited; PackageDescription: SOIC Narrow, 4.9 x 3.9 x 1.45mm, 8 Lead, 1.27mm Pitch; Supplier 1: Digi-Key; Supplier Part Number 1: LM5101CMAX-ND; RoHS: Y; PinCount: 8; Code_JEDEC: MS-012-AA; Code_IPC: SOIC127P600-8; ComponentLink1Description: LM5101C Datasheet; ComponentLink1URL: http://www.national.com/ds/LM/LM5101C.pdf; ComponentLink2Description: LM5101C Web Page; ComponentLink2URL: http://www.national.com/pf/LM/LM5101C.html; ComponentLink3Description: M08A Package Page; ComponentLink3URL: http://www.national.com/packaging/folders/m08a.html
footprint M08A_N (SOIC, 8-Leads, Body 4.9x3.9mm, Pitch 1.27mm, IPC Medium Density)
footprint M08A_L (SOIC, 8-Leads, Body 4.9x3.9mm, Pitch 1.27mm, IPC High Density)
footprint M08A_M (SOIC, 8-Leads, Body 4.9x3.9mm, Pitch 1.27mm, IPC Low Density)
pins: 1 VDD (power), 2 HB (in), 3 HO (out), 4 HS (in), 5 HI (in), 6 LI (in), 7 VSS (power), 8 LO (out)

## LM5101CMY
designator U?
1A High Voltage High-Side and Low-Side Gate Driver, 8-pin eMSOP; PartNumber: LM5101CMY; Manufacturer: National Semiconductor; PackageTopMarking: ZXTT*SXDB; PowerWise: N; CompType: MiscPower; Published: 9-Oct-2009; DatasheetVersion: Jun-2009; PackageVersion: revA, Nov-2003; PackageReference: MUY08A; Publisher: Altium Limited; PackageDescription: Molded Mini-SO, Exposed Pad, .118 x .118 x .034in Body, 8 Lead, .0256in Pitch; RoHS: Y; PinCount: 8; Code_JEDEC: MO-187-AA; ComponentLink1Description: LM5101C Datasheet; ComponentLink1URL: http://www.national.com/ds/LM/LM5101C.pdf; ComponentLink2Description: LM5101C Web Page; ComponentLink2URL: http://www.national.com/pf/LM/LM5101C.html; ComponentLink3Description: MUY08A Package Page; ComponentLink3URL: http://www.national.com/packaging/folders/muy08a.html
footprint MUY08A_N (TSOP, 8-Leads, Body 3x3mm, Pitch 0.65mm, Exposed Pad, IPC Medium Density)
footprint MUY08A_L (TSOP, 8-Leads, Body 3x3mm, Pitch 0.65mm, Exposed Pad, IPC High Density)
footprint MUY08A_M (TSOP, 8-Leads, Body 3x3mm, Pitch 0.65mm, Exposed Pad, IPC Low Density)
pins: 1 VDD (power), 2 HB (in), 3 HO (out), 4 HS (in), 5 HI (in), 6 LI (in), 7 VSS (power), 8 LO (out), 9 EP (power)

## LM5101CMY/NOPB
designator U?
1A High Voltage High-Side and Low-Side Gate Driver, 8-pin eMSOP, Pb-Free; PartNumber: LM5101CMY/NOPB; Manufacturer: National Semiconductor; PackageTopMarking: ZXTT*SXDB; PowerWise: N; CompType: MiscPower; Published: 1-Mar-2010; DatasheetVersion: Jun-2009; PackageVersion: revA, Nov-2003; PackageReference: MUY08A; Publisher: Altium Limited; PackageDescription: Molded Mini-SO, Exposed Pad, .118 x .118 x .034in Body, 8 Lead, .0256in Pitch; Supplier 1: Digi-Key; Supplier Part Number 1: LM5101CMY-ND; RoHS: Y; PinCount: 8; Code_JEDEC: MO-187-AA; ComponentLink1Description: LM5101C Datasheet; ComponentLink1URL: http://www.national.com/ds/LM/LM5101C.pdf; ComponentLink2Description: LM5101C Web Page; ComponentLink2URL: http://www.national.com/pf/LM/LM5101C.html; ComponentLink3Description: MUY08A Package Page; ComponentLink3URL: http://www.national.com/packaging/folders/muy08a.html
footprint MUY08A_N (TSOP, 8-Leads, Body 3x3mm, Pitch 0.65mm, Exposed Pad, IPC Medium Density)
footprint MUY08A_L (TSOP, 8-Leads, Body 3x3mm, Pitch 0.65mm, Exposed Pad, IPC High Density)
footprint MUY08A_M (TSOP, 8-Leads, Body 3x3mm, Pitch 0.65mm, Exposed Pad, IPC Low Density)
pins: 1 VDD (power), 2 HB (in), 3 HO (out), 4 HS (in), 5 HI (in), 6 LI (in), 7 VSS (power), 8 LO (out), 9 EP (power)

## LM5101CMYE/NOPB
designator U?
1A High Voltage High-Side and Low-Side Gate Driver, 8-pin eMSOP, Pb-Free; PartNumber: LM5101CMYE/NOPB; Manufacturer: National Semiconductor; PackageTopMarking: ZXTT*SXDB; PowerWise: N; CompType: MiscPower; Published: 1-Mar-2010; DatasheetVersion: Jun-2009; PackageVersion: revA, Nov-2003; PackageReference: MUY08A; Publisher: Altium Limited; PackageDescription: Molded Mini-SO, Exposed Pad, .118 x .118 x .034in Body, 8 Lead, .0256in Pitch; Supplier 1: Digi-Key; Supplier Part Number 1: LM5101CMYETR-ND; Supplier 2: Digi-Key; Supplier Part Number 2: LM5101CMYECT-ND; Supplier 3: Digi-Key; Supplier Part Number 3: LM5101CMYEDKR-ND; RoHS: Y; PinCount: 8; Code_JEDEC: MO-187-AA; ComponentLink1Description: LM5101C Datasheet; ComponentLink1URL: http://www.national.com/ds/LM/LM5101C.pdf; ComponentLink2Description: LM5101C Web Page; ComponentLink2URL: http://www.national.com/pf/LM/LM5101C.html; ComponentLink3Description: MUY08A Package Page; ComponentLink3URL: http://www.national.com/packaging/folders/muy08a.html
footprint MUY08A_N (TSOP, 8-Leads, Body 3x3mm, Pitch 0.65mm, Exposed Pad, IPC Medium Density)
footprint MUY08A_L (TSOP, 8-Leads, Body 3x3mm, Pitch 0.65mm, Exposed Pad, IPC High Density)
footprint MUY08A_M (TSOP, 8-Leads, Body 3x3mm, Pitch 0.65mm, Exposed Pad, IPC Low Density)
pins: 1 VDD (power), 2 HB (in), 3 HO (out), 4 HS (in), 5 HI (in), 6 LI (in), 7 VSS (power), 8 LO (out), 9 EP (power)

## LM5101CMYX/NOPB
designator U?
1A High Voltage High-Side and Low-Side Gate Driver, 8-pin eMSOP, Pb-Free; PartNumber: LM5101CMYX/NOPB; Manufacturer: National Semiconductor; PackageTopMarking: ZXTT*SXDB; PowerWise: N; CompType: MiscPower; Published: 1-Mar-2010; DatasheetVersion: Jun-2009; PackageVersion: revA, Nov-2003; PackageReference: MUY08A; Publisher: Altium Limited; PackageDescription: Molded Mini-SO, Exposed Pad, .118 x .118 x .034in Body, 8 Lead, .0256in Pitch; Supplier 1: Digi-Key; Supplier Part Number 1: LM5101CMYX-ND; RoHS: Y; PinCount: 8; Code_JEDEC: MO-187-AA; ComponentLink1Description: LM5101C Datasheet; ComponentLink1URL: http://www.national.com/ds/LM/LM5101C.pdf; ComponentLink2Description: LM5101C Web Page; ComponentLink2URL: http://www.national.com/pf/LM/LM5101C.html; ComponentLink3Description: MUY08A Package Page; ComponentLink3URL: http://www.national.com/packaging/folders/muy08a.html
footprint MUY08A_N (TSOP, 8-Leads, Body 3x3mm, Pitch 0.65mm, Exposed Pad, IPC Medium Density)
footprint MUY08A_L (TSOP, 8-Leads, Body 3x3mm, Pitch 0.65mm, Exposed Pad, IPC High Density)
footprint MUY08A_M (TSOP, 8-Leads, Body 3x3mm, Pitch 0.65mm, Exposed Pad, IPC Low Density)
pins: 1 VDD (power), 2 HB (in), 3 HO (out), 4 HS (in), 5 HI (in), 6 LI (in), 7 VSS (power), 8 LO (out), 9 EP (power)

## LM5101CSD
designator U?
1A High Voltage High-Side and Low-Side Gate Driver, 10-pin LLP; PartNumber: LM5101CSD; Manufacturer: National Semiconductor; PackageTopMarking: NS*UZXYTT*5101CSD; PowerWise: N; CompType: MiscPower; Published: 4-Dec-2008; DatasheetVersion: Jun-2009; PackageVersion: revA, May-2003; PackageReference: SDC10A; Publisher: Altium Limited; PackageDescription: LLP, Plastic, Dual, 4 x 4 x 0.8mm Body, 10 Lead, 0.8mm Pitch, No Pullback; Supplier 1: Farnell; Supplier Part Number 1: 1313863; RoHS: N; PinCount: 10; ComponentLink1Description: LM5101C Datasheet; ComponentLink1URL: http://www.national.com/ds/LM/LM5101C.pdf; ComponentLink2Description: LM5101C Web Page; ComponentLink2URL: http://www.national.com/pf/LM/LM5101C.html; ComponentLink3Description: SDC10A Package Page; ComponentLink3URL: http://www.national.com/packaging/folders/sdc10a.html
footprint SDC10A (SON, 10-Leads, Body 4x4 mm, Pitch 0.8mm, NSC Recommended)
pins: 1 VDD (power), 2 HB (in), 3 HO (out), 4 HS (in), 5 NC, 6 NC, 7 HI (in), 8 LI (in), 9 VSS (power), 10 LO (out), 11 EP (power)

## LM5101CSD/NOPB
designator U?
1A High Voltage High-Side and Low-Side Gate Driver, 10-pin LLP, Pb-Free; PartNumber: LM5101CSD/NOPB; Manufacturer: National Semiconductor; PackageTopMarking: NS*UZXYTT*5101CSD; PowerWise: N; CompType: MiscPower; Published: 1-Mar-2010; DatasheetVersion: Jun-2009; PackageVersion: revA, May-2003; PackageReference: SDC10A; Publisher: Altium Limited; PackageDescription: LLP, Plastic, Dual, 4 x 4 x 0.8mm Body, 10 Lead, 0.8mm Pitch, No Pullback; Supplier 1: Digi-Key; Supplier Part Number 1: LM5101CSDTR-ND; Supplier 2: Digi-Key; Supplier Part Number 2: LM5101CSDCT-ND; Supplier 3: Digi-Key; Supplier Part Number 3: LM5101CSDDKR-ND; RoHS: Y; PinCount: 10; ComponentLink1Description: LM5101C Datasheet; ComponentLink1URL: http://www.national.com/ds/LM/LM5101C.pdf; ComponentLink2Description: LM5101C Web Page; ComponentLink2URL: http://www.national.com/pf/LM/LM5101C.html; ComponentLink3Description: SDC10A Package Page; ComponentLink3URL: http://www.national.com/packaging/folders/sdc10a.html
footprint SDC10A (SON, 10-Leads, Body 4x4 mm, Pitch 0.8mm, NSC Recommended)
pins: 1 VDD (power), 2 HB (in), 3 HO (out), 4 HS (in), 5 NC, 6 NC, 7 HI (in), 8 LI (in), 9 VSS (power), 10 LO (out), 11 EP (power)

## LM5101CSDX
designator U?
1A High Voltage High-Side and Low-Side Gate Driver, 10-pin LLP; PartNumber: LM5101CSDX; Manufacturer: National Semiconductor; PackageTopMarking: NS*UZXYTT*5101CSD; PowerWise: N; CompType: MiscPower; Published: 1-Mar-2010; DatasheetVersion: Jun-2009; PackageVersion: revA, May-2003; PackageReference: SDC10A; Publisher: Altium Limited; PackageDescription: LLP, Plastic, Dual, 4 x 4 x 0.8mm Body, 10 Lead, 0.8mm Pitch, No Pullback; RoHS: N; PinCount: 10; ComponentLink1Description: LM5101C Datasheet; ComponentLink1URL: http://www.national.com/ds/LM/LM5101C.pdf; ComponentLink2Description: LM5101C Web Page; ComponentLink2URL: http://www.national.com/pf/LM/LM5101C.html; ComponentLink3Description: SDC10A Package Page; ComponentLink3URL: http://www.national.com/packaging/folders/sdc10a.html
footprint SDC10A (SON, 10-Leads, Body 4x4 mm, Pitch 0.8mm, NSC Recommended)
pins: 1 VDD (power), 2 HB (in), 3 HO (out), 4 HS (in), 5 NC, 6 NC, 7 HI (in), 8 LI (in), 9 VSS (power), 10 LO (out), 11 EP (power)

## LM5101CSDX/NOPB
designator U?
1A High Voltage High-Side and Low-Side Gate Driver, 10-pin LLP, Pb-Free; PartNumber: LM5101CSDX/NOPB; Manufacturer: National Semiconductor; PackageTopMarking: NS*UZXYTT*5101CSD; PowerWise: N; CompType: MiscPower; Published: 1-Mar-2010; DatasheetVersion: Jun-2009; PackageVersion: revA, May-2003; PackageReference: SDC10A; Publisher: Altium Limited; PackageDescription: LLP, Plastic, Dual, 4 x 4 x 0.8mm Body, 10 Lead, 0.8mm Pitch, No Pullback; Supplier 1: Digi-Key; Supplier Part Number 1: LM5101CSDX-ND; RoHS: Y; PinCount: 10; ComponentLink1Description: LM5101C Datasheet; ComponentLink1URL: http://www.national.com/ds/LM/LM5101C.pdf; ComponentLink2Description: LM5101C Web Page; ComponentLink2URL: http://www.national.com/pf/LM/LM5101C.html; ComponentLink3Description: SDC10A Package Page; ComponentLink3URL: http://www.national.com/packaging/folders/sdc10a.html
footprint SDC10A (SON, 10-Leads, Body 4x4 mm, Pitch 0.8mm, NSC Recommended)
pins: 1 VDD (power), 2 HB (in), 3 HO (out), 4 HS (in), 5 NC, 6 NC, 7 HI (in), 8 LI (in), 9 VSS (power), 10 LO (out), 11 EP (power)

## LM5101M/NOPB
designator U?
High Voltage High Side and Low Side Gate Driver, 8 pin SOIC NARROW; PartNumber: LM5101M/NOPB; Manufacturer: National Semiconductor; PackageTopMarking: NSZXTT*5101*M; PowerWise: N; CompType: MiscPower; Published: 16-Nov-2010; DatasheetVersion: Mar-2005; PackageVersion: revM, May-2009; PackageReference: M08A; Publisher: Altium Limited; PackageDescription: SOIC Narrow, 4.9 x 3.9 x 1.45mm, 8 Lead, 1.27mm Pitch; Supplier 1: Digi-Key; Supplier Part Number 1: LM5101M-ND; RoHS: Y; PinCount: 8; Code_JEDEC: MS-012-AA; Code_IPC: SOIC127P600-8; ComponentLink1Description: LM5101 Datasheet; ComponentLink1URL: http://www.national.com/ds/LM/LM5101.pdf; ComponentLink2Description: LM5101 Web Page; ComponentLink2URL: http://www.national.com/pf/LM/LM5101.html; ComponentLink3Description: M08A Package Page; ComponentLink3URL: http://www.national.com/packaging/folders/m08a.html
footprint M08A_N (SOIC, 8-Leads, Body 4.9x3.9mm, Pitch 1.27mm, IPC Medium Density)
footprint M08A_L (SOIC, 8-Leads, Body 4.9x3.9mm, Pitch 1.27mm, IPC High Density)
footprint M08A_M (SOIC, 8-Leads, Body 4.9x3.9mm, Pitch 1.27mm, IPC Low Density)
pins: 1 VDD (power), 2 HB (in), 3 HO (out), 4 HS (in), 5 HI (in), 6 LI (in), 7 VSS (power), 8 LO (out)